# Altium schematic symbol library Generic R-C.SchLib: 7 symbols
Pins are listed as number, name and electrical type; pins without a type are passive.

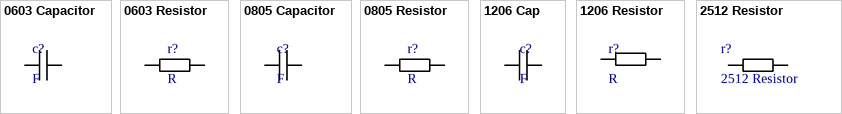
[diagram p0: symbols 0603 Capacitor to 2512 Resistor]

## 0603 Capacitor
designator c?, comment F
...F
footprint 0603 (Generic package)
pins: 1, 2

## 0603 Resistor
designator r?, comment R
...R
footprint 0603 (Generic package)
pins: 1, 2

## 0805 Capacitor
designator c?, comment F
...F
footprint 0805 (Generic Package)
pins: 1 "Capacitor Pin 1", 2 "Capacitor Pin 1"

## 0805 Resistor
designator r?, comment R
...R
footprint 0805 (Generic Package)
pins: 1, 2

## 1206 Cap
designator c?, comment F
...F
footprint 1206 (Generic Package)
pins: 1 "Capacitor Pin 1", 2 "Capacitor Pin 1"

## 1206 Resistor
designator r?, comment R
..R
footprint 1206
pins: 1, 2

## 2512 Resistor
designator r?
..R
footprint 2512
pins: 1, 2